# Altium schematic symbol library CL31B104KBCNNNC.SchLib: 1 symbol
Pins are listed as number, name and electrical type; pins without a type are passive.

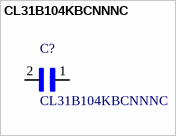
[diagram p0: symbol CL31B104KBCNNNC]

## CL31B104KBCNNNC
designator C?
/ Cap Ceramic 0.1uF 50V X7R 10% Pad SMD 1206 125C T/R /; MF: Samsung Electro-Mechanics; MP: CL31B104KBCNNNC; Availability: Unavailable; SnapEDA_Link: https://www.snapeda.com/parts/CL31B104KBCNNNC/Samsung%20Electro-Mechanics/view-part/?ref=snap; Package: 1206 Samsung; Price: None; Value: *
footprint *CAPC3216X180N
pins: 1, 2